# EAGLE library part 8WAY (library Phoenix-Contact)
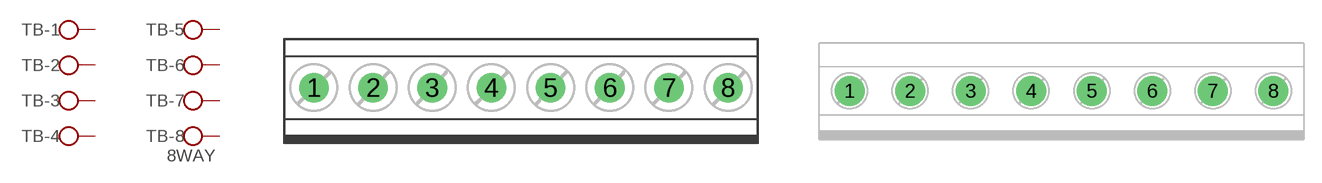
[diagram p1: symbol with the pads of MKDS08_3.81; footprints MKDS08_3.81, MKDSN08_5.08]

Designator prefix TB; gates -1=KL -2=KL -3=KL -4=KL -5=KL -6=KL -7=KL -8=KL+V

## 8WAY3.81  [MKDS08_3.81]
1  -1:KL  pas
2  -2:KL  pas
3  -3:KL  pas
4  -4:KL  pas
5  -5:KL  pas
6  -6:KL  pas
7  -7:KL  pas
8  -8:KL  pas

## 8WAY5.08  [MKDSN08_5.08]
Pads as for MKDS08_3.81

## 8WAY  [MKDS08_5.08]
Pads as for MKDS08_3.81

## Footprint MKDS08_3.81 (pad centres in mm)
Phoenix Contact MKDS 3.81mm
drill 1.1 pad 1.905 round: 1 0,0; 2 3.81,0; 3 7.62,0; 4 11.43,0; 5 15.24,0; 6 19.05,0; 7 22.86,0; 8 26.67,0

## Footprint MKDSN08_5.08 (pad centres in mm)
Phoenix Contact MKDSN 5.08mm
drill 1.3 pad 2.54 round: 1 0,0; 2 5.08,0; 3 10.16,0; 4 15.24,0; 5 20.32,0; 6 25.4,0; 7 30.48,0; 8 35.56,0

## Footprint MKDS08_5.08 (pad centres in mm)
Phoenix Contact MKDS 5.08mm
drill 1.3 pad 2.54 round: 1 0,0; 2 5.08,0; 3 10.16,0; 4 15.24,0; 5 20.32,0; 6 25.4,0; 7 30.48,0; 8 35.56,0